# Altium footprint library Switching_Regulators_Pcb.PcbLib: 18 footprints (part 2 of 2)
Each footprint in its own frame and in the unit in brackets; x right, y up, seen from the top. Pads: shape width x height; smd on the part's side, far side on the other; paste and mask are expansions set on the pad; w line width, h text height; cw(c..) or ccw(c..) is an arc to the next point about the centre after c.
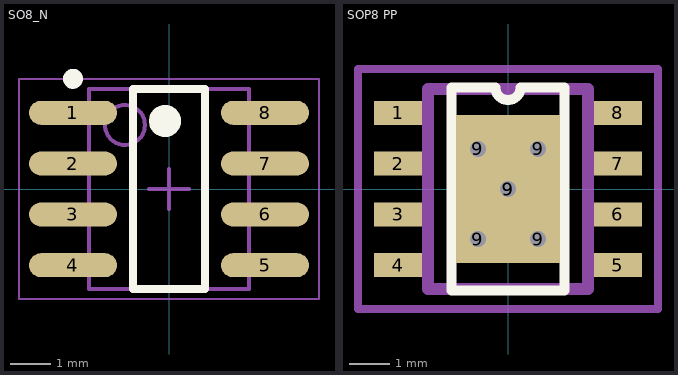
[diagram p1: the footprints below, top view; thin cyan lines are the x and y axes]

## SO8_N [mm] "SOIC, 8-Leads, Body 4.9x3.9mm, Pitch 1.27mm, IPC Medium Density"
height 1.75
pads (8):
  oval 2.2x0.6 smd: 1(-2.4,1.905) 2(-2.4,0.635) 3(-2.4,-0.635) 4(-2.4,-1.905) 5(2.4,-1.905) 6(2.4,-0.635) 7(2.4,0.635) 8(2.4,1.905)
Top Overlay:
  circle w0.25: c-2.4,2.755 r0.125
  circle w0.4: c-0.1,1.7 r0.2
  lines w0.2: -0.9,-2.5 -0.9,2.5 0.9,2.5 0.9,-2.5 -0.9,-2.5
Mechanical 13:
  circle w0.1: c-1.1,1.6 r0.5
  lines w0.1: -2,-2.5 -2,2.5 2,2.5 2,-2.5 -2,-2.5
Mechanical 15:
  lines w0.05: -3.75,-2.75 -3.75,2.75 3.75,2.75 3.75,-2.75 -3.75,-2.75
  lines w0.1: -0.5,0 0.5,0 ; 0,-0.5 0,0.5
3D body "SO-8N.STEP": height 1.63, standoff 0.01, extent -3,-2.46 3,2.46

## SOP8 PP [mm]
pads (14):
  rect 1.2x0.6 smd: 1(-2.75,1.905) 2(-2.75,0.635) 3(-2.75,-0.635) 4(-2.75,-1.905) 5(2.75,-1.905) 6(2.75,-0.635) 7(2.75,0.635) 8(2.75,1.905)
  round 0.6 hole 0.4: 9(-0.75,-1.25) 9(-0.75,1) 9(0,0) 9(0.75,-1.25) 9(0.75,1)
  rect 2.6x3.7 smd: 9(0,0)
Top Overlay:
  lines w0.25: -1.415,-2.54 1.415,-2.54 1.415,2.54 0.318,2.54 cw(c0,2.54) -0.318,2.54 -1.415,2.54 -1.415,-2.54
Mechanical 13:
  lines w0.3: -2,-2.5 2,-2.5 2,2.5 -2,2.5 -2,-2.5
  text ".designator" at -2.276,2.679 h1.5
Mechanical 15:
  lines w0.2: -3.75,-3 3.75,-3 3.75,3 -3.75,3 -3.75,-3
3D body "SOP8.step": height 1.76, standoff 0.01, extent -3.1,-2.5 3.1,2.5